# EAGLE library part 74HC4053 (library Bauteile)
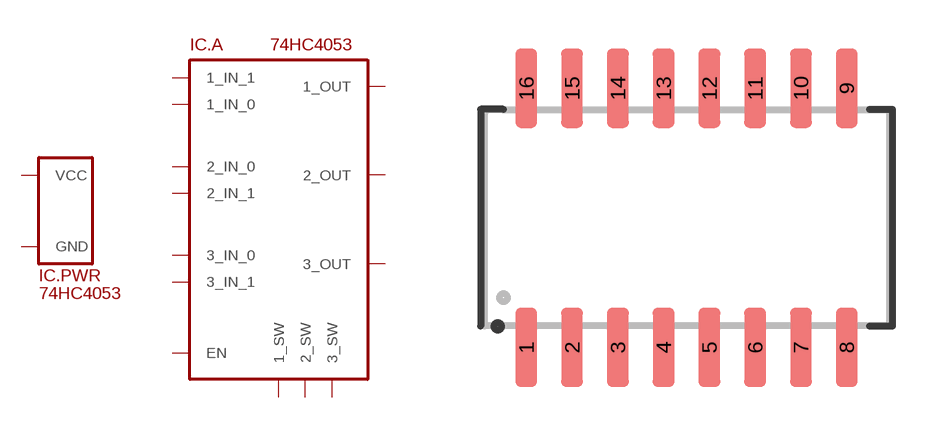
[diagram p34: symbol with the pads of SOP16; footprint SOP16]

Designator prefix IC; gates .PWR=SUPPLY_VCC/GND .A=74HC4053

## 74HC4053  [SOP16]
1  .A:2_IN_1
2  .A:2_IN_0
3  .A:3_IN_1
4  .A:3_OUT
5  .A:3_IN_0
6  .A:EN
7  .PWR:GND
8  .PWR:GND
9  .A:3_SW
10  .A:2_SW
11  .A:1_SW
12  .A:1_IN_0
13  .A:1_IN_1
14  .A:1_OUT
15  .A:2_OUT
16  .PWR:VCC

## Footprint SOP16 (pad centres in mm)
smd 0.6 x 2.2: 1 -4.445,-3.6; 2 -3.175,-3.6; 3 -1.905,-3.6; 4 -0.635,-3.6; 5 0.635,-3.6; 6 1.905,-3.6; 7 3.175,-3.6; 8 4.445,-3.6; 9 4.445,3.6; 10 3.175,3.6; 11 1.905,3.6; 12 0.635,3.6; 13 -0.635,3.6; 14 -1.905,3.6; 15 -3.175,3.6; 16 -4.445,3.6